# Altium footprint library SparkFun-Retired.PCBLIB: 45 footprints (part 1 of 3)
Each footprint in its own frame and in the unit in brackets; x right, y up, seen from the top. Pads: shape width x height; smd on the part's side, far side on the other; paste and mask are expansions set on the pad; w line width, h text height; cw(c..) or ccw(c..) is an arc to the next point about the centre after c.
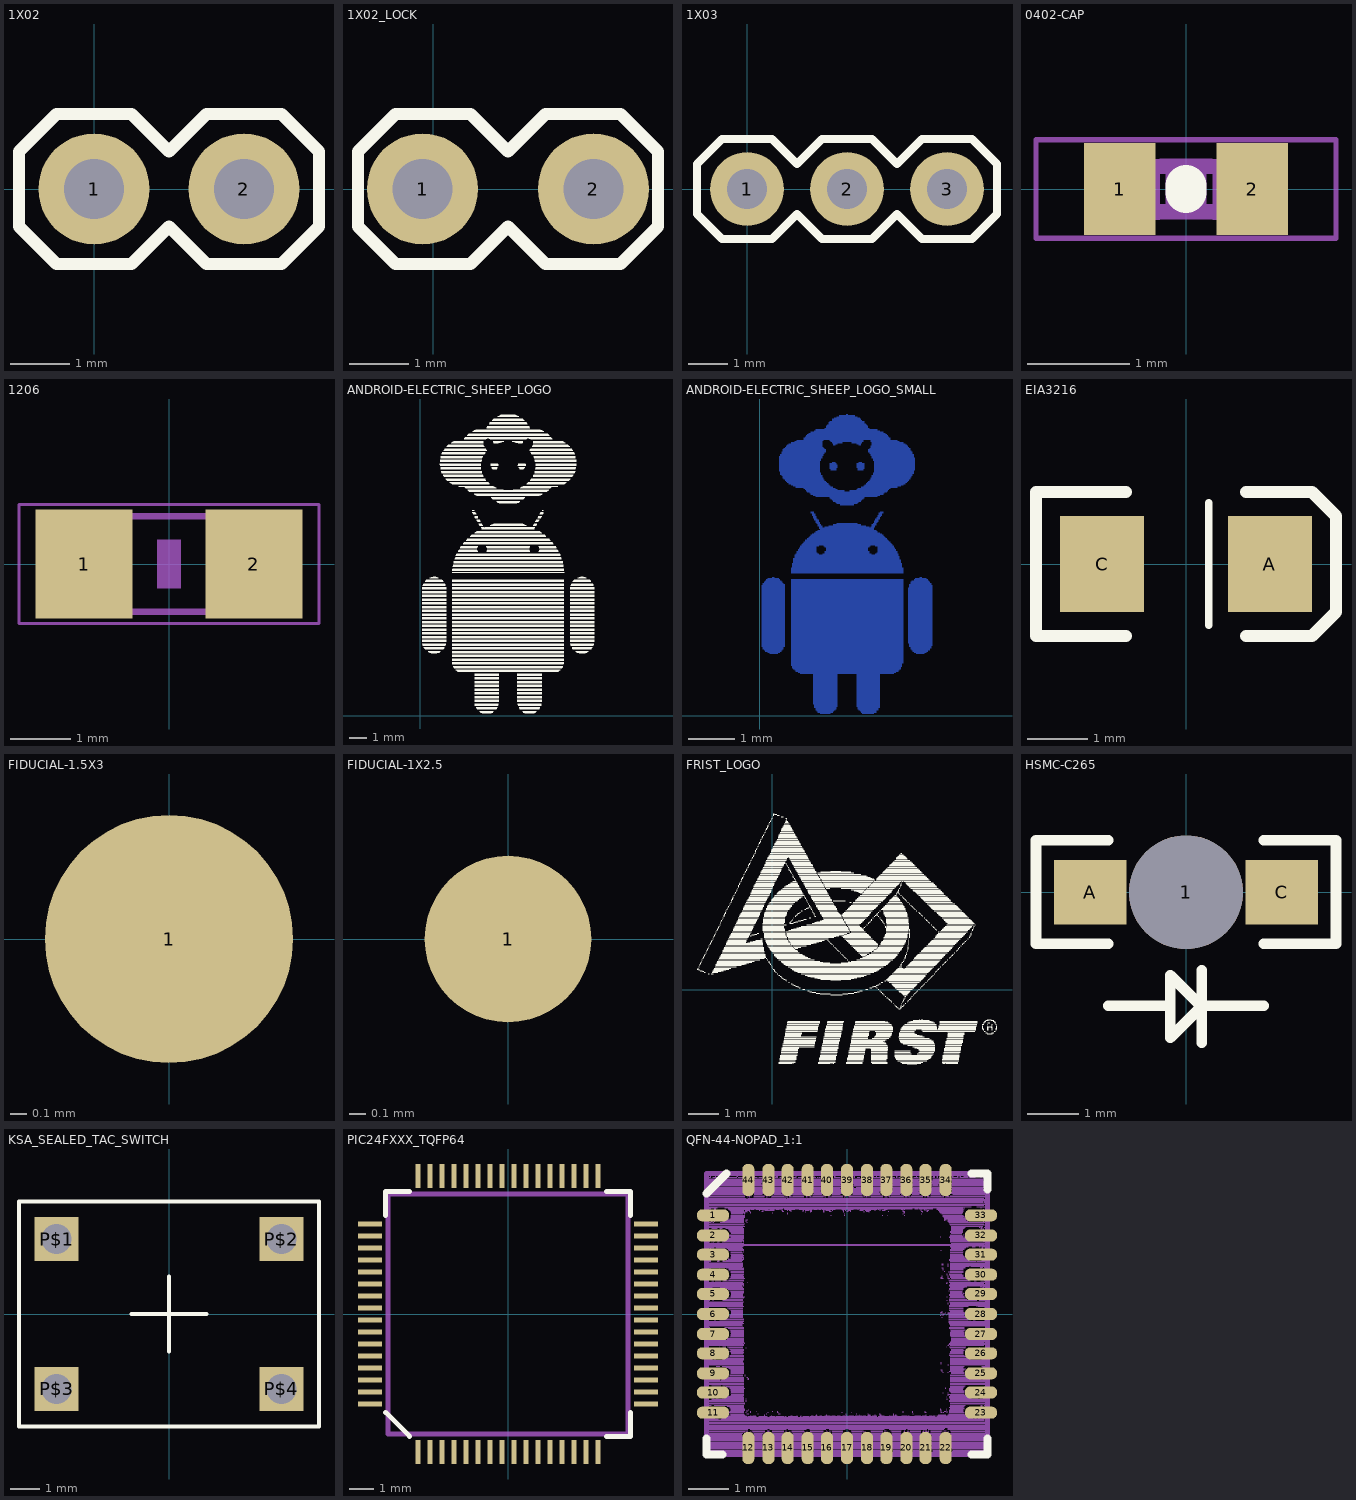
[diagram p0: the footprints below, top view; thin cyan lines are the x and y axes]

## 1X02 [mil]
pads (2):
  round 74 hole 40: 1(0,0) 2(100,0)
Top Overlay:
  lines w8: -50,-25 -50,25 -25,50 25,50 50,25 75,50 125,50 150,25 150,-25 125,-50 75,-50 50,-25 25,-50 -25,-50 -50,-25
Mechanical 16:
  rectangle: 90,-10 110,10
  rectangle: -10,-10 10,10

## 1X02_LOCK [mil]
pads (2):
  round 74 hole 40: 1(-7,0) 2(107,0)
Top Overlay:
  lines w8: -50,-25 -50,25 -25,50 25,50 50,25 75,50 125,50 150,25 150,-25 125,-50 75,-50 50,-25 25,-50 -25,-50 -50,-25
Mechanical 16:
  rectangle: -11.5,-11.5 11.5,11.5
  rectangle: 88.5,-11.5 111.5,11.5

## 1X03 [mil]
pads (3):
  round 74 hole 40: 1(0,0) 2(100,0) 3(200,0)
Top Overlay:
  lines w8: -50,-25 -50,25 -25,50 25,50 50,25 75,50 125,50 150,25 175,50 225,50 250,25 250,-25 225,-50 175,-50 150,-25 125,-50 75,-50 50,-25 25,-50 -25,-50 -50,-25
Mechanical 16:
  rectangle: 190,-10 210,10
  rectangle: 90,-10 110,10
  rectangle: -10,-10 10,10

## 0402-CAP [mm]
pads (2):
  rect 0.7x0.9 smd: 1(-0.65,0) 2(0.65,0)
Top Overlay:
  lines w0.406: 0,-0.03 0,0.03
Mechanical 6:
  rectangle: -0.2,-0.3 0.2,0.3
Mechanical 16:
  rectangle: -0.554,-0.305 -0.254,0.295
  rectangle: 0.259,-0.305 0.559,0.295
  lines w0.152: -0.245,-0.224 0.245,-0.224 ; -0.245,0.224 0.245,0.224
Mechanical 27:
  lines w0.051: -1.473,-0.483 1.473,-0.483 1.473,0.483 -1.473,0.483 -1.473,-0.483

## 1206 [mm]
pads (2):
  rect 1.6x1.8 smd: 1(-1.4,0) 2(1.4,0)
Mechanical 6:
  rectangle: -0.2,-0.4 0.2,0.4
Mechanical 16:
  rectangle: -1.702,-0.851 -0.952,0.849
  rectangle: 0.952,-0.849 1.702,0.851
  lines w0.102: -0.965,-0.787 0.965,-0.787 ; -0.965,0.787 0.965,0.787
Mechanical 27:
  lines w0.051: -2.473,-0.983 2.473,-0.983 2.473,0.983 -2.473,0.983 -2.473,-0.983

## ANDROID-ELECTRIC_SHEEP_LOGO [mm]
Top Overlay:
  drawing of 1370 lines, arcs and shapes, not listed

## ANDROID-ELECTRIC_SHEEP_LOGO_SMALL [mm]
Bottom Layer:
  rectangle: 1.308,0.038 1.537,0.064
  rectangle: 2.222,0.038 2.476,0.064
  rectangle: 1.257,0.064 1.587,0.089
  rectangle: 2.197,0.064 2.527,0.089
  rectangle: 1.232,0.089 1.613,0.114
  rectangle: 2.172,0.089 2.527,0.114
  rectangle: 1.206,0.114 1.638,0.14
  rectangle: 2.146,0.114 2.578,0.14
  rectangle: 1.206,0.14 1.664,0.165
  rectangle: 2.121,0.14 2.578,0.165
  rectangle: 1.181,0.165 1.664,0.191
  rectangle: 2.121,0.165 2.603,0.191
  rectangle: 1.181,0.191 1.689,0.216
  rectangle: 2.095,0.191 2.603,0.216
  rectangle: 1.181,0.216 1.689,0.241
  rectangle: 2.095,0.216 2.603,0.241
  rectangle: 1.156,0.241 1.689,0.267
  rectangle: 2.095,0.241 2.603,0.267
  rectangle: 1.156,0.267 1.689,0.292
  rectangle: 2.095,0.267 2.603,0.292
  rectangle: 1.156,0.292 1.689,0.318
  rectangle: 2.095,0.292 2.603,0.318
  rectangle: 1.156,0.318 1.689,0.343
  rectangle: 2.095,0.318 2.603,0.343
  rectangle: 1.156,0.343 1.689,0.368
  rectangle: 2.095,0.343 2.603,0.368
  rectangle: 1.156,0.368 1.689,0.394
  rectangle: 2.095,0.368 2.603,0.394
  rectangle: 1.156,0.394 1.689,0.419
  rectangle: 2.095,0.394 2.603,0.419
  rectangle: 1.156,0.419 1.689,0.445
  rectangle: 2.095,0.419 2.603,0.445
  rectangle: 1.156,0.445 1.689,0.47
  rectangle: 2.095,0.445 2.603,0.47
  rectangle: 1.156,0.47 1.689,0.495
  rectangle: 2.095,0.47 2.603,0.495
  rectangle: 1.156,0.495 1.689,0.521
  rectangle: 2.095,0.495 2.603,0.521
  rectangle: 1.156,0.521 1.689,0.546
  rectangle: 2.095,0.521 2.603,0.546
  rectangle: 1.156,0.546 1.689,0.572
  rectangle: 2.095,0.546 2.603,0.572
  rectangle: 1.156,0.572 1.689,0.597
  rectangle: 2.095,0.572 2.603,0.597
  rectangle: 1.156,0.597 1.689,0.622
  rectangle: 2.095,0.597 2.603,0.622
  rectangle: 1.156,0.622 1.689,0.648
  rectangle: 2.095,0.622 2.603,0.648
  rectangle: 1.156,0.648 1.689,0.673
  rectangle: 2.095,0.648 2.603,0.673
  rectangle: 1.156,0.673 1.689,0.699
  rectangle: 2.095,0.673 2.603,0.699
  rectangle: 1.156,0.699 1.689,0.724
  rectangle: 2.095,0.699 2.603,0.724
  rectangle: 1.156,0.724 1.689,0.749
  rectangle: 2.095,0.724 2.603,0.749
  rectangle: 1.156,0.749 1.689,0.775
  rectangle: 2.095,0.749 2.603,0.775
  rectangle: 1.156,0.775 1.689,0.8
  rectangle: 2.095,0.775 2.603,0.8
  rectangle: 1.156,0.8 1.689,0.826
  rectangle: 2.095,0.8 2.603,0.826
  rectangle: 1.156,0.826 1.689,0.851
  rectangle: 2.095,0.826 2.603,0.851
  rectangle: 1.156,0.851 1.689,0.876
  rectangle: 2.095,0.851 2.603,0.876
  rectangle: 1.156,0.876 1.689,0.902
  rectangle: 2.095,0.876 2.603,0.902
  rectangle: 0.876,0.902 2.908,0.927
  rectangle: 0.826,0.927 2.959,0.953
  rectangle: 0.775,0.953 3.01,0.978
  rectangle: 0.749,0.978 3.035,1.003
  rectangle: 0.724,1.003 3.061,1.029
  rectangle: 0.699,1.029 3.061,1.054
  rectangle: 0.699,1.054 3.086,1.079
  rectangle: 0.673,1.079 3.086,1.105
  rectangle: 0.673,1.105 3.086,1.13
  rectangle: 0.673,1.13 3.111,1.156
  rectangle: 0.673,1.156 3.111,1.181
  rectangle: 0.673,1.181 3.111,1.206
  rectangle: 0.673,1.206 3.111,1.232
  rectangle: 0.673,1.232 3.111,1.257
  rectangle: 0.673,1.257 3.111,1.283
  rectangle: 0.673,1.283 3.111,1.308
  rectangle: 0.673,1.308 3.111,1.333
  rectangle: 0.216,1.333 0.394,1.359
  rectangle: 0.673,1.333 3.111,1.359
  rectangle: 3.391,1.333 3.569,1.359
  rectangle: 0.165,1.359 0.445,1.384
  rectangle: 0.673,1.359 3.111,1.384
  rectangle: 3.34,1.359 3.619,1.384
  rectangle: 0.114,1.384 0.47,1.41
  rectangle: 0.673,1.384 3.111,1.41
  rectangle: 3.315,1.384 3.645,1.41
  rectangle: 0.089,1.41 0.495,1.435
  rectangle: 0.673,1.41 3.111,1.435
  rectangle: 3.289,1.41 3.696,1.435
  rectangle: 0.064,1.435 0.521,1.46
  rectangle: 0.673,1.435 3.111,1.46
  rectangle: 3.264,1.435 3.696,1.46
  rectangle: 0.064,1.46 0.521,1.486
  rectangle: 0.673,1.46 3.111,1.486
  rectangle: 3.264,1.46 3.721,1.486
  rectangle: 0.038,1.486 0.546,1.511
  rectangle: 0.673,1.486 3.111,1.511
  rectangle: 3.238,1.486 3.721,1.511
  rectangle: 0.038,1.511 0.546,1.537
  rectangle: 0.673,1.511 3.111,1.537
  rectangle: 3.238,1.511 3.746,1.537
  rectangle: 0.038,1.537 0.546,1.562
  rectangle: 0.673,1.537 3.111,1.562
  rectangle: 3.238,1.537 3.746,1.562
  rectangle: 0.038,1.562 0.546,1.587
  rectangle: 0.673,1.562 3.111,1.587
  rectangle: 3.213,1.562 3.746,1.587
  rectangle: 0.038,1.587 0.546,1.613
  rectangle: 0.673,1.587 3.111,1.613
  rectangle: 3.213,1.587 3.746,1.613
  rectangle: 0.038,1.613 0.546,1.638
  rectangle: 0.673,1.613 3.111,1.638
  rectangle: 3.213,1.613 3.746,1.638
  rectangle: 0.038,1.638 0.546,1.664
  rectangle: 0.673,1.638 3.111,1.664
  rectangle: 3.213,1.638 3.746,1.664
  rectangle: 0.038,1.664 0.546,1.689
  rectangle: 0.673,1.664 3.111,1.689
  rectangle: 3.213,1.664 3.746,1.689
  rectangle: 0.038,1.689 0.546,1.714
  rectangle: 0.673,1.689 3.111,1.714
  rectangle: 3.213,1.689 3.746,1.714
  rectangle: 0.038,1.714 0.546,1.74
  rectangle: 0.673,1.714 3.111,1.74
  rectangle: 3.213,1.714 3.746,1.74
  rectangle: 0.038,1.74 0.546,1.765
  rectangle: 0.673,1.74 3.111,1.765
  rectangle: 3.213,1.74 3.746,1.765
  rectangle: 0.038,1.765 0.546,1.791
  rectangle: 0.673,1.765 3.111,1.791
  rectangle: 3.213,1.765 3.746,1.791
  rectangle: 0.038,1.791 0.546,1.816
  rectangle: 0.673,1.791 3.111,1.816
  rectangle: 3.213,1.791 3.746,1.816
  rectangle: 0.038,1.816 0.546,1.841
  rectangle: 0.673,1.816 3.111,1.841
  rectangle: 3.213,1.816 3.746,1.841
  rectangle: 0.038,1.841 0.546,1.867
  rectangle: 0.673,1.841 3.111,1.867
  rectangle: 3.213,1.841 3.746,1.867
  rectangle: 0.038,1.867 0.546,1.892
  rectangle: 0.673,1.867 3.111,1.892
  rectangle: 3.213,1.867 3.746,1.892
  rectangle: 0.038,1.892 0.546,1.918
  rectangle: 0.673,1.892 3.111,1.918
  rectangle: 3.213,1.892 3.746,1.918
  rectangle: 0.038,1.918 0.546,1.943
  rectangle: 0.673,1.918 3.111,1.943
  rectangle: 3.213,1.918 3.746,1.943
  rectangle: 0.038,1.943 0.546,1.968
  rectangle: 0.673,1.943 3.111,1.968
  rectangle: 3.213,1.943 3.746,1.968
  rectangle: 0.038,1.968 0.546,1.994
  rectangle: 0.673,1.968 3.111,1.994
  rectangle: 3.213,1.968 3.746,1.994
  rectangle: 0.038,1.994 0.546,2.019
  rectangle: 0.673,1.994 3.111,2.019
  rectangle: 3.213,1.994 3.746,2.019
  rectangle: 0.038,2.019 0.546,2.045
  rectangle: 0.673,2.019 3.111,2.045
  rectangle: 3.213,2.019 3.746,2.045
  rectangle: 0.038,2.045 0.546,2.07
  rectangle: 0.673,2.045 3.111,2.07
  rectangle: 3.213,2.045 3.746,2.07
  rectangle: 0.038,2.07 0.546,2.095
  rectangle: 0.673,2.07 3.111,2.095
  rectangle: 3.213,2.07 3.746,2.095
  rectangle: 0.038,2.095 0.546,2.121
  rectangle: 0.673,2.095 3.111,2.121
  rectangle: 3.213,2.095 3.746,2.121
  rectangle: 0.038,2.121 0.546,2.146
  rectangle: 0.673,2.121 3.111,2.146
  rectangle: 3.213,2.121 3.746,2.146
  rectangle: 0.038,2.146 0.546,2.172
  rectangle: 0.673,2.146 3.111,2.172
  rectangle: 3.213,2.146 3.746,2.172
  rectangle: 0.038,2.172 0.546,2.197
  rectangle: 0.673,2.172 3.111,2.197
  rectangle: 3.213,2.172 3.746,2.197
  rectangle: 0.038,2.197 0.546,2.222
  rectangle: 0.673,2.197 3.111,2.222
  rectangle: 3.213,2.197 3.746,2.222
  rectangle: 0.038,2.222 0.546,2.248
  rectangle: 0.673,2.222 3.111,2.248
  rectangle: 3.213,2.222 3.746,2.248
  rectangle: 0.038,2.248 0.546,2.273
  rectangle: 0.673,2.248 3.111,2.273
  rectangle: 3.213,2.248 3.746,2.273
  rectangle: 0.038,2.273 0.546,2.299
  rectangle: 0.673,2.273 3.111,2.299
  rectangle: 3.213,2.273 3.746,2.299
  rectangle: 0.038,2.299 0.546,2.324
  rectangle: 0.673,2.299 3.111,2.324
  rectangle: 3.213,2.299 3.746,2.324
  rectangle: 0.038,2.324 0.546,2.349
  rectangle: 0.673,2.324 3.111,2.349
  rectangle: 3.213,2.324 3.746,2.349
  rectangle: 0.038,2.349 0.546,2.375
  rectangle: 0.673,2.349 3.111,2.375
  rectangle: 3.213,2.349 3.746,2.375
  rectangle: 0.038,2.375 0.546,2.4
  rectangle: 0.673,2.375 3.111,2.4
  rectangle: 3.213,2.375 3.746,2.4
  rectangle: 0.038,2.4 0.546,2.426
  rectangle: 0.673,2.4 3.111,2.426
  rectangle: 3.213,2.4 3.746,2.426
  rectangle: 0.038,2.426 0.546,2.451
  rectangle: 0.673,2.426 3.111,2.451
  rectangle: 3.213,2.426 3.746,2.451
  rectangle: 0.038,2.451 0.546,2.476
  rectangle: 0.673,2.451 3.111,2.476
  rectangle: 3.213,2.451 3.746,2.476
  rectangle: 0.038,2.476 0.546,2.502
  rectangle: 0.673,2.476 3.111,2.502
  rectangle: 3.213,2.476 3.746,2.502
  rectangle: 0.038,2.502 0.546,2.527
  rectangle: 0.673,2.502 3.111,2.527
  rectangle: 3.213,2.502 3.746,2.527
  rectangle: 0.038,2.527 0.546,2.553
  rectangle: 0.673,2.527 3.111,2.553
  rectangle: 3.213,2.527 3.746,2.553
  rectangle: 0.038,2.553 0.546,2.578
  rectangle: 0.673,2.553 3.111,2.578
  rectangle: 3.213,2.553 3.746,2.578
  rectangle: 0.038,2.578 0.546,2.603
  rectangle: 0.673,2.578 3.111,2.603
  rectangle: 3.213,2.578 3.746,2.603
  rectangle: 0.038,2.603 0.546,2.629
  rectangle: 0.673,2.603 3.111,2.629
  rectangle: 3.213,2.603 3.746,2.629
  rectangle: 0.038,2.629 0.546,2.654
  rectangle: 0.673,2.629 3.111,2.654
  rectangle: 3.213,2.629 3.746,2.654
  rectangle: 0.038,2.654 0.546,2.68
  rectangle: 0.673,2.654 3.111,2.68
  rectangle: 3.213,2.654 3.746,2.68
  rectangle: 0.038,2.68 0.546,2.705
  rectangle: 0.673,2.68 3.111,2.705
  rectangle: 3.213,2.68 3.746,2.705
  rectangle: 0.038,2.705 0.546,2.73
  rectangle: 0.673,2.705 3.111,2.73
  rectangle: 3.213,2.705 3.746,2.73
  rectangle: 0.038,2.73 0.546,2.756
  rectangle: 0.673,2.73 3.111,2.756
  rectangle: 3.213,2.73 3.746,2.756
  rectangle: 0.038,2.756 0.546,2.781
  rectangle: 0.673,2.756 3.111,2.781
  rectangle: 3.213,2.756 3.746,2.781
  rectangle: 0.038,2.781 0.546,2.807
  rectangle: 0.673,2.781 3.111,2.807
  rectangle: 3.238,2.781 3.746,2.807
  rectangle: 0.038,2.807 0.546,2.832
  rectangle: 0.673,2.807 3.111,2.832
  rectangle: 3.238,2.807 3.746,2.832
  rectangle: 0.064,2.832 0.546,2.857
  rectangle: 0.673,2.832 3.111,2.857
  rectangle: 3.238,2.832 3.721,2.857
  rectangle: 0.064,2.857 0.521,2.883
  rectangle: 0.673,2.857 3.111,2.883
  rectangle: 3.264,2.857 3.721,2.883
  rectangle: 0.089,2.883 0.495,2.908
  rectangle: 0.673,2.883 3.111,2.908
  rectangle: 3.264,2.883 3.696,2.908
  rectangle: 0.114,2.908 0.47,2.934
  rectangle: 0.673,2.908 3.111,2.934
  rectangle: 3.289,2.908 3.67,2.934
  rectangle: 0.14,2.934 0.445,2.959
  rectangle: 0.673,2.934 3.111,2.959
  rectangle: 3.34,2.934 3.645,2.959
  rectangle: 0.165,2.959 0.419,2.984
  rectangle: 3.365,2.959 3.619,2.984
  rectangle: 0.267,2.984 0.318,3.01
  rectangle: 3.467,2.984 3.518,3.01
  rectangle: 0.673,3.086 3.111,3.111
  rectangle: 0.673,3.111 3.111,3.137
  rectangle: 0.673,3.137 3.111,3.162
  rectangle: 0.673,3.162 3.111,3.188
  rectangle: 0.673,3.188 3.111,3.213
  rectangle: 0.699,3.213 3.086,3.238
  rectangle: 0.699,3.238 3.086,3.264
  rectangle: 0.699,3.264 3.086,3.289
  rectangle: 0.699,3.289 3.086,3.315
  rectangle: 0.724,3.315 3.061,3.34
  rectangle: 0.724,3.34 3.061,3.365
  rectangle: 0.724,3.365 3.061,3.391
  rectangle: 0.724,3.391 3.035,3.416
  rectangle: 0.749,3.416 3.035,3.442
  rectangle: 0.749,3.442 3.035,3.467
  rectangle: 0.749,3.467 3.01,3.492
  rectangle: 0.775,3.492 1.283,3.518
  rectangle: 1.359,3.492 2.426,3.518
  rectangle: 2.502,3.492 3.01,3.518
  rectangle: 0.8,3.518 1.257,3.543
  rectangle: 1.41,3.518 2.375,3.543
  rectangle: 2.527,3.518 2.984,3.543
  rectangle: 0.8,3.543 1.232,3.569
  rectangle: 1.41,3.543 2.375,3.569
  rectangle: 2.553,3.543 2.984,3.569
  rectangle: 0.826,3.569 1.232,3.594
  rectangle: 1.435,3.569 2.349,3.594
  rectangle: 2.553,3.569 2.959,3.594
  rectangle: 0.826,3.594 1.232,3.619
  rectangle: 1.435,3.594 2.349,3.619
  rectangle: 2.553,3.594 2.959,3.619
  rectangle: 0.851,3.619 1.232,3.645
  rectangle: 1.435,3.619 2.349,3.645
  rectangle: 2.553,3.619 2.934,3.645
  rectangle: 0.876,3.645 1.232,3.67
  rectangle: 1.41,3.645 2.375,3.67
  rectangle: 2.553,3.645 2.908,3.67
  rectangle: 0.876,3.67 1.283,3.696
  rectangle: 1.384,3.67 2.4,3.696
  rectangle: 2.502,3.67 2.908,3.696
  rectangle: 0.902,3.696 2.883,3.721
  rectangle: 0.927,3.721 2.857,3.746
  rectangle: 0.953,3.746 2.832,3.772
  rectangle: 0.978,3.772 2.807,3.797
  rectangle: 0.978,3.797 2.781,3.823
  rectangle: 1.029,3.823 2.756,3.848
  rectangle: 1.054,3.848 2.73,3.873
  rectangle: 1.079,3.873 2.705,3.899
  rectangle: 1.105,3.899 2.68,3.924
  rectangle: 1.13,3.924 2.654,3.95
  rectangle: 1.181,3.95 2.603,3.975
  rectangle: 1.206,3.975 2.553,4
  rectangle: 1.257,4 2.527,4.026
  rectangle: 1.308,4.026 2.476,4.051
  rectangle: 1.283,4.051 2.476,4.077
  rectangle: 1.283,4.077 1.359,4.102
  rectangle: 1.41,4.077 2.375,4.102
  rectangle: 2.4,4.077 2.502,4.102
  rectangle: 1.257,4.102 1.359,4.127
  rectangle: 1.486,4.102 2.299,4.127
  rectangle: 2.426,4.102 2.502,4.127
  rectangle: 1.257,4.127 1.333,4.153
  rectangle: 1.587,4.127 2.197,4.153
  rectangle: 2.426,4.127 2.527,4.153
  rectangle: 1.232,4.153 1.308,4.178
  rectangle: 1.664,4.153 2.121,4.178
  rectangle: 2.451,4.153 2.527,4.178
  rectangle: 1.206,4.178 1.308,4.204
  rectangle: 2.476,4.178 2.553,4.204
  rectangle: 1.206,4.204 1.283,4.229
  rectangle: 2.476,4.204 2.578,4.229
  rectangle: 1.181,4.229 1.283,4.255
  rectangle: 2.502,4.229 2.578,4.255
  rectangle: 1.181,4.255 1.257,4.28
  rectangle: 2.502,4.255 2.603,4.28
  rectangle: 1.156,4.28 1.232,4.305
  rectangle: 2.527,4.28 2.603,4.305
  rectangle: 1.156,4.305 1.232,4.331
  rectangle: 2.553,4.305 2.629,4.331
  rectangle: 1.13,4.331 1.206,4.356
  rectangle: 2.553,4.331 2.654,4.356
  rectangle: 1.13,4.356 1.206,4.381
  rectangle: 2.578,4.356 2.654,4.381
  rectangle: 1.105,4.381 1.181,4.407
  rectangle: 2.578,4.381 2.68,4.407
  rectangle: 1.105,4.407 1.181,4.432
  rectangle: 2.603,4.407 2.68,4.432
  rectangle: 1.74,4.559 2.045,4.585
  rectangle: 1.664,4.585 2.121,4.61
  rectangle: 1.638,4.61 2.146,4.635
  rectangle: 1.587,4.635 2.197,4.661
  rectangle: 1.562,4.661 2.222,4.686
  rectangle: 1.537,4.686 2.248,4.712
  rectangle: 1.511,4.712 2.273,4.737
  rectangle: 1.206,4.737 2.553,4.763
  rectangle: 1.156,4.763 2.603,4.788
  rectangle: 1.105,4.788 2.68,4.813
  rectangle: 1.079,4.813 2.705,4.839
  rectangle: 1.029,4.839 2.756,4.864
  rectangle: 1.003,4.864 1.841,4.889
  rectangle: 1.943,4.864 2.781,4.889
  rectangle: 0.978,4.889 1.689,4.915
  rectangle: 2.095,4.889 2.807,4.915
  rectangle: 0.953,4.915 1.638,4.94
  rectangle: 2.121,4.915 2.832,4.94
  rectangle: 0.775,4.94 1.587,4.966
  rectangle: 2.197,4.94 2.984,4.966
  rectangle: 0.724,4.966 1.537,4.991
  rectangle: 2.248,4.966 3.061,4.991
  rectangle: 0.673,4.991 1.511,5.016
  rectangle: 2.273,4.991 3.111,5.016
  rectangle: 0.622,5.016 1.486,5.042
  rectangle: 2.299,5.016 3.162,5.042
  rectangle: 0.597,5.042 1.46,5.067
  rectangle: 2.324,5.042 3.188,5.067
  rectangle: 0.572,5.067 1.435,5.093
  rectangle: 2.349,5.067 3.213,5.093
  rectangle: 0.546,5.093 1.41,5.118
  rectangle: 2.375,5.093 3.238,5.118
  rectangle: 0.521,5.118 1.384,5.143
  rectangle: 2.4,5.118 3.264,5.143
  rectangle: 0.495,5.143 1.384,5.169
  rectangle: 2.4,5.143 3.264,5.169
  rectangle: 0.495,5.169 1.359,5.194
  rectangle: 2.426,5.169 3.289,5.194
  rectangle: 0.47,5.194 1.359,5.22
  rectangle: 2.426,5.194 3.315,5.22
  rectangle: 0.445,5.22 1.333,5.245
  rectangle: 2.451,5.22 3.315,5.245
  rectangle: 0.445,5.245 1.333,5.271
  rectangle: 2.451,5.245 3.34,5.271
  rectangle: 0.445,5.271 1.308,5.296
  rectangle: 2.476,5.271 3.34,5.296
  rectangle: 0.419,5.296 1.308,5.321
  rectangle: 2.476,5.296 3.34,5.321
  rectangle: 0.419,5.321 1.308,5.347
  rectangle: 1.537,5.321 1.664,5.347
  rectangle: 2.121,5.321 2.248,5.347
  rectangle: 2.476,5.321 3.365,5.347
  rectangle: 0.419,5.347 1.308,5.372
  rectangle: 1.511,5.347 1.664,5.372
  rectangle: 2.121,5.347 2.273,5.372
  rectangle: 2.476,5.347 3.365,5.372
  rectangle: 0.419,5.372 1.308,5.397
  rectangle: 1.511,5.372 1.689,5.397
  rectangle: 2.095,5.372 2.273,5.397
  rectangle: 2.476,5.372 3.365,5.397
  rectangle: 0.419,5.397 1.308,5.423
  rectangle: 1.511,5.397 1.689,5.423
  rectangle: 2.095,5.397 2.273,5.423
  rectangle: 2.476,5.397 3.365,5.423
  rectangle: 0.419,5.423 1.308,5.448
  rectangle: 1.511,5.423 1.689,5.448
  rectangle: 2.095,5.423 2.273,5.448
  rectangle: 2.476,5.423 3.365,5.448
  rectangle: 0.419,5.448 1.308,5.474
  rectangle: 1.511,5.448 1.664,5.474
  rectangle: 2.095,5.448 2.273,5.474
  rectangle: 2.476,5.448 3.365,5.474
  rectangle: 0.419,5.474 1.308,5.499
  rectangle: 1.562,5.474 1.638,5.499
  rectangle: 2.146,5.474 2.222,5.499
  rectangle: 2.476,5.474 3.365,5.499
  rectangle: 0.419,5.499 1.308,5.524
  rectangle: 2.476,5.499 3.365,5.524
  rectangle: 0.419,5.524 1.333,5.55
  rectangle: 2.451,5.524 3.365,5.55
  rectangle: 0.419,5.55 1.333,5.575
  rectangle: 2.451,5.55 3.365,5.575
  rectangle: 0.419,5.575 1.359,5.601
  rectangle: 2.426,5.575 3.365,5.601
  rectangle: 0.419,5.601 1.359,5.626
  rectangle: 2.426,5.601 3.34,5.626
  rectangle: 0.445,5.626 1.384,5.651
  rectangle: 2.4,5.626 3.34,5.651
  rectangle: 0.445,5.651 1.384,5.677
  rectangle: 2.4,5.651 3.34,5.677
  rectangle: 0.47,5.677 1.41,5.702
  rectangle: 2.375,5.677 3.315,5.702
  rectangle: 0.47,5.702 1.435,5.728
  rectangle: 2.349,5.702 3.315,5.728
  rectangle: 0.495,5.728 1.435,5.753
  rectangle: 2.349,5.728 3.289,5.753
  rectangle: 0.495,5.753 1.435,5.779
  rectangle: 2.349,5.753 3.264,5.779
  rectangle: 0.521,5.779 1.41,5.804
  rectangle: 2.375,5.779 3.264,5.804
  rectangle: 0.546,5.804 1.384,5.829
  rectangle: 2.4,5.804 3.238,5.829
  rectangle: 0.572,5.829 1.359,5.855
  rectangle: 2.4,5.829 3.213,5.855
  rectangle: 0.597,5.855 1.359,5.88
  rectangle: 1.587,5.855 1.638,5.88
  rectangle: 2.146,5.855 2.197,5.88
  rectangle: 2.426,5.855 3.188,5.88
  rectangle: 0.622,5.88 1.359,5.905
  rectangle: 1.587,5.88 1.689,5.905
  rectangle: 2.095,5.88 2.197,5.905
  rectangle: 2.426,5.88 3.162,5.905
  rectangle: 0.673,5.905 1.359,5.931
  rectangle: 1.562,5.905 1.791,5.931
  rectangle: 1.994,5.905 2.222,5.931
  rectangle: 2.426,5.905 3.111,5.931
  rectangle: 0.749,5.931 1.359,5.956
  rectangle: 1.537,5.931 2.248,5.956
  rectangle: 2.4,5.931 3.035,5.956
  rectangle: 0.8,5.956 1.384,5.982
  rectangle: 1.511,5.956 2.248,5.982
  rectangle: 2.4,5.956 2.984,5.982
  rectangle: 0.953,5.982 2.832,6.007
  rectangle: 0.953,6.007 2.832,6.032
  rectangle: 0.978,6.032 2.807,6.058
  rectangle: 1.003,6.058 2.781,6.083
  rectangle: 1.029,6.083 2.756,6.109
  rectangle: 1.054,6.109 2.73,6.134
  rectangle: 1.105,6.134 2.68,6.159
  rectangle: 1.181,6.159 2.603,6.185
  rectangle: 1.206,6.185 2.553,6.21
  rectangle: 1.41,6.21 2.375,6.236
  rectangle: 1.435,6.236 2.349,6.261
  rectangle: 1.435,6.261 2.349,6.286
  rectangle: 1.46,6.286 2.324,6.312
  rectangle: 1.486,6.312 2.299,6.337
  rectangle: 1.486,6.337 2.273,6.363
  rectangle: 1.511,6.363 2.273,6.388
  rectangle: 1.562,6.388 2.222,6.413
  rectangle: 1.562,6.413 2.197,6.439
  rectangle: 1.613,6.439 2.172,6.464
  rectangle: 1.664,6.464 2.121,6.49
  rectangle: 1.714,6.49 2.07,6.515
  rectangle: 1.867,6.515 1.918,6.54

## CREATIVE_COMMONS [mm]
Mechanical 16:
  text "Released under the Creative Commons Attribution Share-Alike 3.0 License" at -20.32,5.08 h2.76
  text "https://creativecommons.org/licenses/by-sa/3.0/" at 0,2.54 h2.76
  text "Designed by:" at 11.43,0 h2.76

## EIA3216 [mm]
pads (2):
  rect 1.4x1.6 smd: A(1.4,0) C(-1.4,0)
Top Overlay:
  lines w0.127: 0.381,-1.016 0.381,1.016
  lines w0.203: -1,-1.2 -2.5,-1.2 -2.5,1.2 -1,1.2 ; 1,-1.2 2.1,-1.2 2.5,-0.8 2.5,0.8 2.1,1.2 1,1.2

## FIDUCIAL-1.5X3 [mm]
pads (1):
  rrect100% 1.5x1.5 smd: 1(0,0)
Top Solder:
  circle w1.27: c0,0 r0.906

## FIDUCIAL-1X2.5 [mm]
pads (1):
  rrect100% 1x1 smd: 1(0,0)
Top Solder:
  circle w1.27: c0,0 r0.9

## FRIST_LOGO [mm]
Top Overlay:
  drawing of 1936 lines, arcs and shapes, not listed

## HSMC-C265 [mm]
pads (3):
  round 2.2 hole 2.2: 1(0,0)
  rect 1.4x1.25 smd: A(-1.85,0) C(1.85,0)
Top Overlay:
  lines w0.203: -1.5,-2.2 -0.3,-2.2 ; -1.5,-1 -2.9,-1 -2.9,1 -1.5,1 ; 0.3,-2.91 0.3,-2.21 ; 0.3,-1.51 0.3,-2.2 ; 1.5,-2.2 0.3,-2.2 ; 1.5,-1 2.9,-1 2.9,1 1.5,1 ; -0.3,-2.2 -0.3,-1.61 0.3,-2.21 ; -0.3,-2.2 -0.3,-2.81 0.3,-2.21 ; 0.3,-2.21 0.3,-2.2

## KSA_SEALED_TAC_SWITCH [mm]
pads (4):
  rect 1.5x1.5 hole 1: P$1(-3.81,2.54) P$2(3.81,2.54) P$3(-3.81,-2.54) P$4(3.81,-2.54)
Top Overlay:
  lines w0.127: -1.27,0 1.27,0 ; 0,-1.27 0,1.27 ; -5.08,-3.81 5.08,-3.81 5.08,3.81 -5.08,3.81 -5.08,-3.81

## PIC24FXXX_TQFP64 [mm]
pads (64):
  rect 0.22x1 smd: 1(-3.75,-5.75) 2(-3.25,-5.75) 3(-2.75,-5.75) 4(-2.25,-5.75) 5(-1.75,-5.75) 6(-1.25,-5.75) 7(-0.75,-5.75) 8(-0.25,-5.75) 9(0.25,-5.75) 10(0.75,-5.75) 11(1.25,-5.75) 12(1.75,-5.75) 13(2.25,-5.75) 14(2.75,-5.75) 15(3.25,-5.75) 16(3.75,-5.75) 33(3.75,5.75) 34(3.25,5.75) 35(2.75,5.75) 36(2.25,5.75) 37(1.75,5.75) 38(1.25,5.75) 39(0.75,5.75) 40(0.25,5.75) 41(-0.25,5.75) 42(-0.75,5.75) 43(-1.25,5.75) 44(-1.75,5.75) 45(-2.25,5.75) 46(-2.75,5.75) 47(-3.25,5.75) 48(-3.75,5.75)
  rect 1x0.22 smd: 17(5.75,-3.75) 18(5.75,-3.25) 19(5.75,-2.75) 20(5.75,-2.25) 21(5.75,-1.75) 22(5.75,-1.25) 23(5.75,-0.75) 24(5.75,-0.25) 25(5.75,0.25) 26(5.75,0.75) 27(5.75,1.25) 28(5.75,1.75) 29(5.75,2.25) 30(5.75,2.75) 31(5.75,3.25) 32(5.75,3.75) 49(-5.75,3.75) 50(-5.75,3.25) 51(-5.75,2.75) 52(-5.75,2.25) 53(-5.75,1.75) 54(-5.75,1.25) 55(-5.75,0.75) 56(-5.75,0.25) 57(-5.75,-0.25) 58(-5.75,-0.75) 59(-5.75,-1.25) 60(-5.75,-1.75) 61(-5.75,-2.25) 62(-5.75,-2.75) 63(-5.75,-3.25) 64(-5.75,-3.75)
Top Overlay:
  lines w0.203: -5.1,-4.1 -4.1,-5.1 ; -5.1,4.1 -5.1,5.1 -4.1,5.1 ; 4.1,-5.1 5.1,-5.1 5.1,-4.1 ; 4.1,5.1 5.1,5.1 5.1,4.1
Mechanical 16:
  lines w0.203: -5,-5 5,-5 5,5 -5,5 -5,-5

## QFN-44-NOPAD_1:1 [mil]
pads (44):
  rrect85% 31.5x11.81 smd: 1(-131.36,96.76) 2(-131.36,77.08) 3(-131.36,58.22) 4(-131.36,38.54) 5(-131.36,19.69) 6(-131.36,0) 7(-131.36,-19.69) 8(-131.36,-38.54) 9(-131.36,-58.22) 10(-131.36,-77.08) 11(-131.36,-96.76) 23(131.36,-96.76) 24(131.36,-77.08) 25(131.36,-58.22) 26(131.36,-38.54) 27(131.36,-19.69) 28(131.36,0) 29(131.36,19.69) 30(131.36,38.54) 31(131.36,58.22) 32(131.36,77.08) 33(131.36,96.76)
  rrect85% 11.81x31.5 smd: 12(-96.76,-131.36) 13(-77.08,-131.36) 14(-58.22,-131.36) 15(-38.54,-131.36) 16(-19.69,-131.36) 17(0,-131.36) 18(19.69,-131.36) 19(38.54,-131.36) 20(58.22,-131.36) 21(77.08,-131.36) 22(96.76,-131.36) 34(96.76,131.36) 35(77.08,131.36) 36(58.22,131.36) 37(38.54,131.36) 38(19.69,131.36) 39(0,131.36) 40(-19.69,131.36) 41(-38.54,131.36) 42(-58.22,131.36) 43(-77.08,131.36) 44(-96.76,131.36)
Top Overlay:
  lines w8: -137.8,-122.05 -137.8,-137.8 -122.05,-137.8 ; -137.8,118.11 -118.11,137.8 ; 122.05,-137.8 137.8,-137.8 137.8,-122.05 ; 122.05,137.8 137.8,137.8 137.8,122.05
Mechanical 14:
  lines w2: -136.6,67.45 134.4,67.45
Mechanical 16:
  lines w5: -137.8,-137.8 -137.8,137.8 137.8,137.8 137.8,-137.8 -133.86,-137.8
Mech81:
  drawing of 2800 lines, arcs and shapes, not listed